# Altium integrated library ERJ2RKD33R0X.IntLib: 1 symbol
Pins are listed as number, name and electrical type; pins without a type are passive.

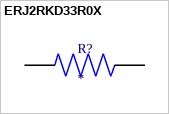
[diagram p0: symbol ERJ2RKD33R0X]

## ERJ2RKD33R0X
designator R?
Res, Thick Film, 33r, 0.5%, 0.063w, 0402; MF: Panasonic; MP: ERJ2RKD33R0X; Package: 1005 Panasonic Electronic Components; Availability: Warning; Purchase-URL: https://pricing.snapeda.com/search/part/ERJ2RKD33R0X/?ref=eda; Value: *; Check_prices: https://www.snapeda.com/parts/ERJ2RKD33R0X/Panasonic/view-part/959885/?ref=eda; Price: None; SnapEDA_Link: https://www.snapeda.com/parts/ERJ2RKD33R0X/Panasonic/view-part/959885/?ref=snap
footprint RESC1005X40N
pins: 1, 2